# EAGLE library part TFT-DISPLAY-2.6-51PIN (library tftdisplays)
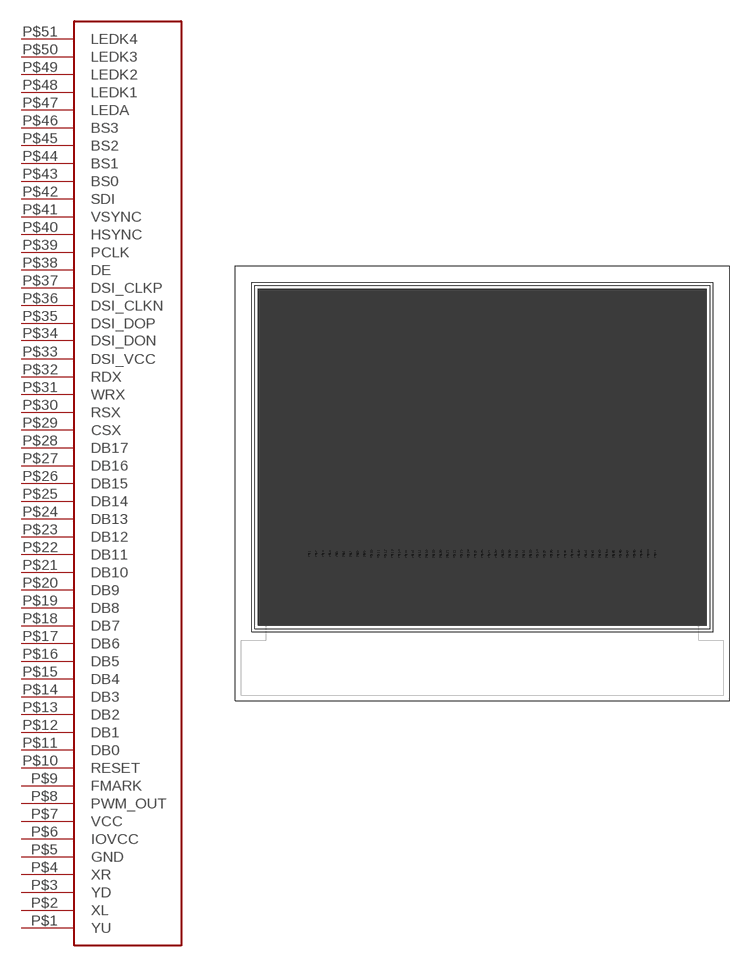
[diagram p6: symbol with the pads of TFT-DISPLAY-2.6-51PIN; footprint TFT-DISPLAY-2.6-51PIN]

Designator prefix -

## TFT-DISPLAY-2.6-51PIN  [TFT-DISPLAY-2.6-51PIN]
P$1  YU
P$2  XL
P$3  YD
P$4  XR
P$5  GND
P$6  IOVCC
P$7  VCC
P$8  PWM_OUT
P$9  FMARK
P$10  RESET
P$11  DB0
P$12  DB1
P$13  DB2
P$14  DB3
P$15  DB4
P$16  DB5
P$17  DB6
P$18  DB7
P$19  DB8
P$20  DB9
P$21  DB10
P$22  DB11
P$23  DB12
P$24  DB13
P$25  DB14
P$26  DB15
P$27  DB16
P$28  DB17
P$29  CSX
P$30  RSX
P$31  WRX
P$32  RDX
P$33  DSI_VCC
P$34  DSI_DON
P$35  DSI_DOP
P$36  DSI_CLKN
P$37  DSI_CLKP
P$38  DE
P$39  PCLK
P$40  HSYNC
P$41  VSYNC
P$42  SDI
P$43  BS0
P$44  BS1
P$45  BS2
P$46  BS3
P$47  LEDA
P$48  LEDK1
P$49  LEDK2
P$50  LEDK3
P$51  LEDK4

## Footprint TFT-DISPLAY-2.6-51PIN (pad centres in mm)
smd 0.4 x 3: P$1 -20,-8.12; P$2 -19.2,-8.12; P$3 -18.4,-8.12; P$4 -17.6,-8.12; P$5 -16.8,-8.12; P$6 -16,-8.12; P$7 -15.2,-8.12; P$8 -14.4,-8.12; P$9 -13.6,-8.12; P$10 -12.8,-8.12; P$11 -12,-8.12; P$12 -11.2,-8.12; P$13 -10.4,-8.12; P$14 -9.6,-8.12; P$15 -8.8,-8.12; P$16 -8,-8.12; P$17 -7.2,-8.12; P$18 -6.4,-8.12; P$19 -5.6,-8.12; P$20 -4.8,-8.12; P$21 -4,-8.12; P$22 -3.2,-8.12; P$23 -2.4,-8.12; P$24 -1.6,-8.12; P$25 -0.8,-8.12; P$26 0,-8.12; P$27 0.8,-8.12; P$28 1.6,-8.12; P$29 2.4,-8.12; P$30 3.2,-8.12; P$31 4,-8.12; P$32 4.8,-8.12; P$33 5.6,-8.12; P$34 6.4,-8.12; P$35 7.2,-8.12; P$36 8,-8.12; P$37 8.8,-8.12; P$38 9.6,-8.12; P$39 10.4,-8.12; P$40 11.2,-8.12; P$41 12,-8.12; P$42 12.8,-8.12; P$43 13.6,-8.12; P$44 14.4,-8.12; P$45 15.2,-8.12; P$46 16,-8.12; P$47 16.8,-8.12; P$48 17.6,-8.12; P$49 18.4,-8.12; P$50 19.2,-8.12; P$51 20,-8.12